# EAGLE library part LCD_CONNECTOR (library TuansLib)
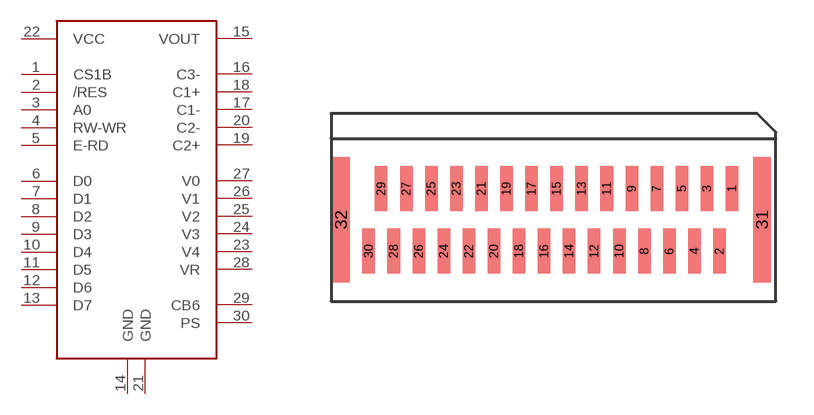
[diagram p2: symbol with the pads of LCD_CONNECTOR; footprint LCD_CONNECTOR]

Designator prefix -

## LCD_CONNECTOR  [LCD_CONNECTOR]
1  CS1B
2  /RES
3  A0
4  RW-WR
5  E-RD
6  D0
7  D1
8  D2
9  D3
10  D4
11  D5
12  D6
13  D7
14  GND
15  VOUT
16  C3-
17  C1-
18  C1+
19  C2+
20  C2-
21  GND
22  VCC
23  V4
24  V3
25  V2
26  V1
27  V0
28  VR
29  CB6
30  PS

## Footprint LCD_CONNECTOR (pad centres in mm)
smd 0.5 x 1.8: 1 0,0; 2 -0.5,-2.5; 3 -1,0; 4 -1.5,-2.5; 5 -2,0; 6 -2.5,-2.5; 7 -3,0; 8 -3.5,-2.5; 9 -4,0; 10 -4.5,-2.5; 11 -5,0; 12 -5.5,-2.5; 13 -6,0; 14 -6.5,-2.5; 15 -7,0; 16 -7.5,-2.5; 17 -8,0; 18 -8.5,-2.5; 19 -9,0; 20 -9.5,-2.5; 21 -10,0; 22 -10.5,-2.5; 23 -11,0; 24 -11.5,-2.5; 25 -12,0; 26 -12.5,-2.5; 27 -13,0; 28 -13.5,-2.5; 29 -14,0; 30 -14.5,-2.5
smd 0.7 x 5: 31 1.2,-1.25; 32 -15.6,-1.25